# EAGLE library part QUECTEL_M95_HD_V1.0 (library gps-gsm)
Quad-band GSM/GPRS Module
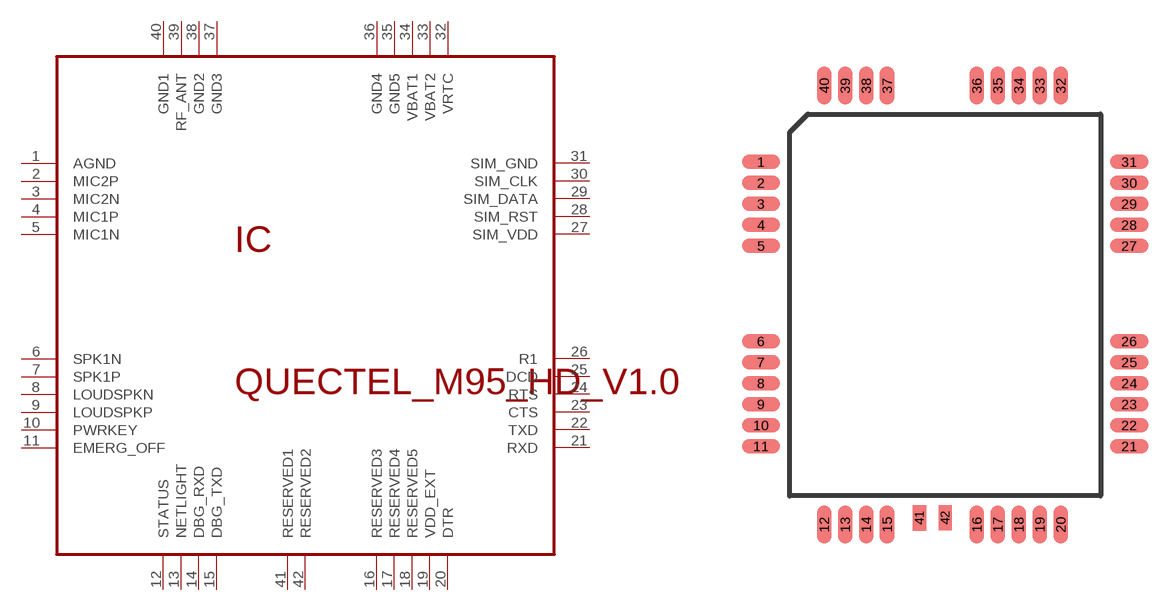
[diagram p22: symbol with the pads of M95; footprint M95]

Designator prefix IC

## QUECTEL_M95_HD_V1.0  [M95]
1  AGND  pas
2  MIC2P  pas
3  MIC2N  pas
4  MIC1P  pas
5  MIC1N  pas
6  SPK1N  pas
7  SPK1P  pas
8  LOUDSPKN  pas
9  LOUDSPKP  pas
10  PWRKEY  pas
11  EMERG_OFF  pas
12  STATUS  pas
13  NETLIGHT  pas
14  DBG_RXD  pas
15  DBG_TXD  pas
16  RESERVED3  pas
17  RESERVED4  pas
18  RESERVED5  pas
19  VDD_EXT  pas
20  DTR  pas
21  RXD  pas
22  TXD  pas
23  CTS  pas
24  RTS  pas
25  DCD  pas
26  R1  pas
27  SIM_VDD  pas
28  SIM_RST  pas
29  SIM_DATA  pas
30  SIM_CLK  pas
31  SIM_GND  pas
32  VRTC  pas
33  VBAT2  pas
34  VBAT1  pas
35  GND5  pas
36  GND4  pas
37  GND3  pas
38  GND2  pas
39  RF_ANT  pas
40  GND1  pas
41  RESERVED1  pas
42  RESERVED2  pas

## Footprint M95 (pad centres in mm)
smd 2 x 0.75: 1 -9.65,7.5; 2 -9.65,6.4; 3 -9.65,5.3; 4 -9.65,4.2; 5 -9.65,3.1; 6 -9.65,-1.9; 7 -9.65,-3; 8 -9.65,-4.1; 9 -9.65,-5.2; 10 -9.65,-6.3; 11 -9.65,-7.4; 21 9.65,-7.4; 22 9.65,-6.3; 23 9.65,-5.2; 24 9.65,-4.1; 25 9.65,-3; 26 9.65,-1.9; 27 9.65,3.1; 28 9.65,4.2; 29 9.65,5.3; 30 9.65,6.4; 31 9.65,7.5
smd 0.75 x 2: 12 -6.35,-11.5; 13 -5.25,-11.5; 14 -4.15,-11.5; 15 -3.05,-11.5; 16 1.65,-11.5; 17 2.75,-11.5; 18 3.85,-11.5; 19 4.95,-11.5; 20 6.05,-11.5; 32 6.05,11.5; 33 4.95,11.5; 34 3.85,11.5; 35 2.75,11.5; 36 1.65,11.5; 37 -3.05,11.5; 38 -4.15,11.5; 39 -5.25,11.5; 40 -6.35,11.5
smd 0.7 x 1.32: 41 -1.35,-11.16
smd 0.7 x 1.3: 42 0,-11.15